# Altium footprint library PCB1.PcbLib: 19 footprints (part 1 of 2)
Each footprint in its own frame and in the unit in brackets; x right, y up, seen from the top. Pads: shape width x height; smd on the part's side, far side on the other; paste and mask are expansions set on the pad; w line width, h text height; cw(c..) or ccw(c..) is an arc to the next point about the centre after c.
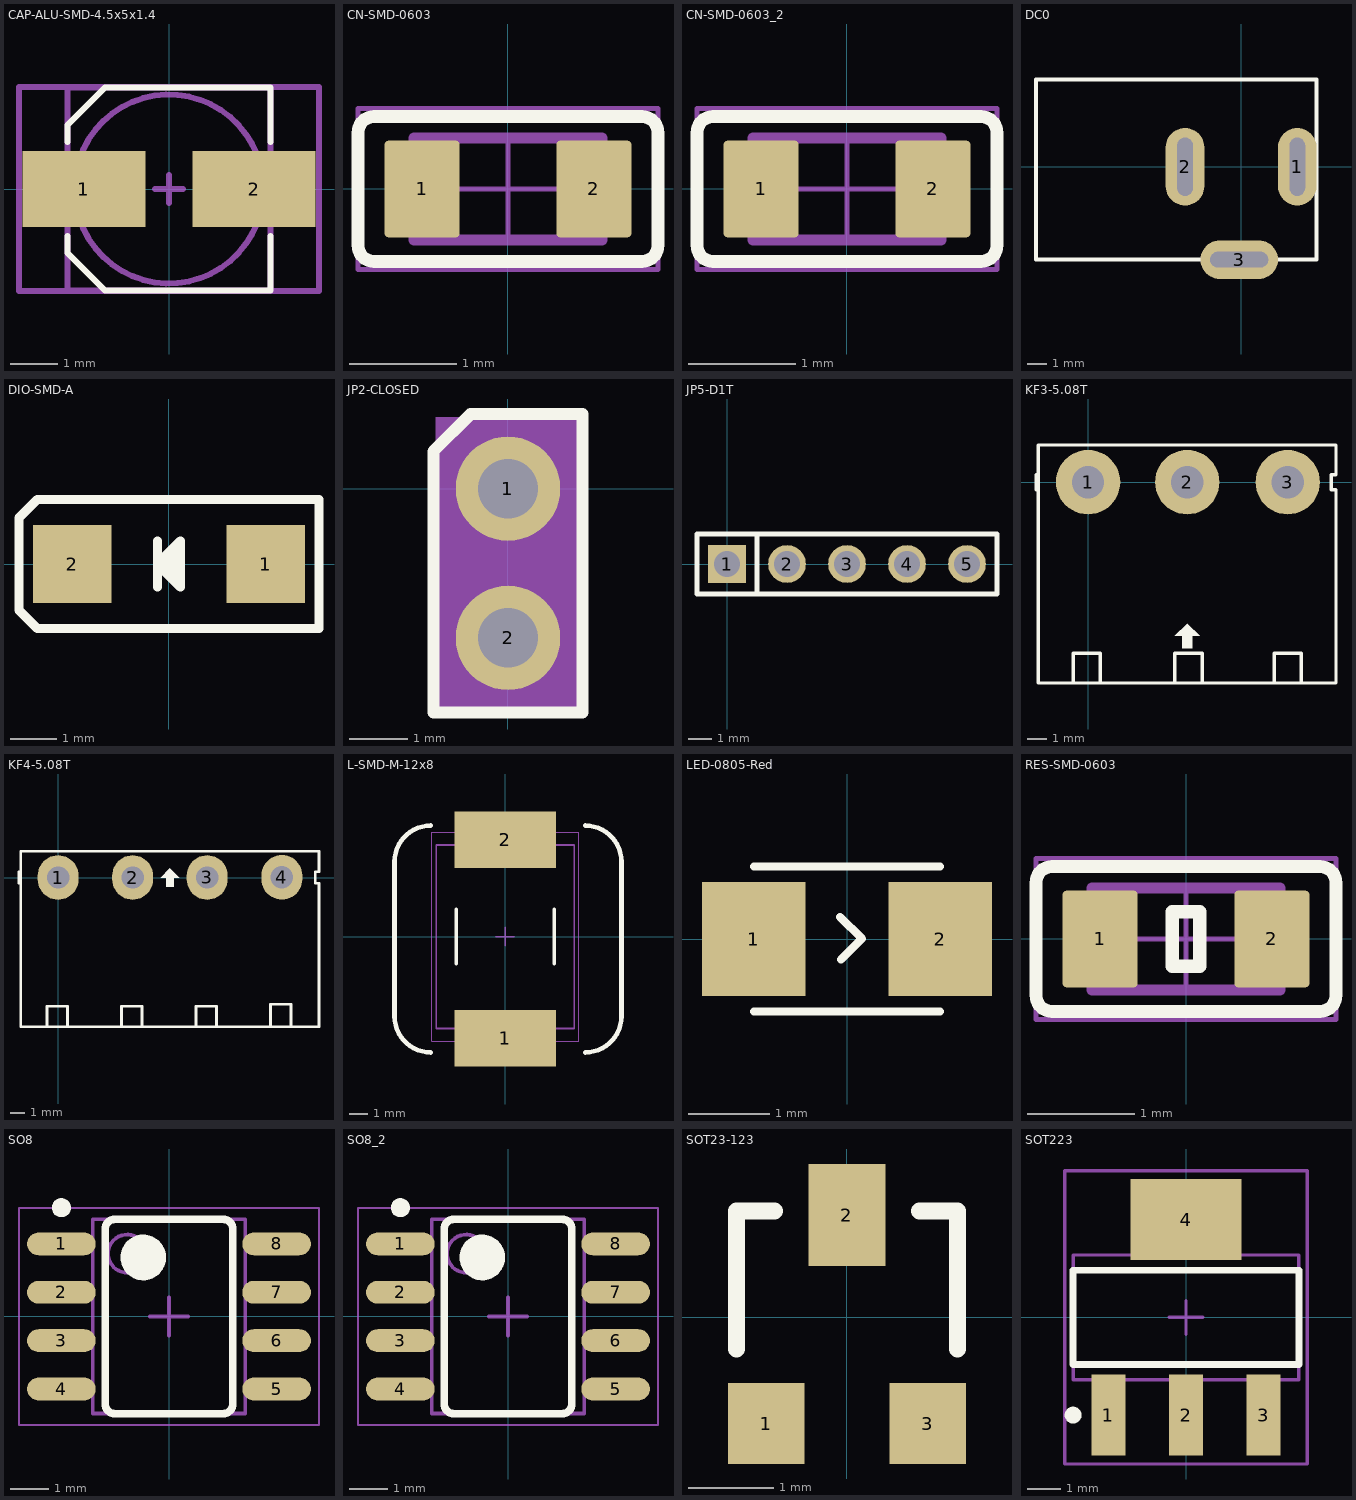
[diagram p0: the footprints below, top view; thin cyan lines are the x and y axes]

## CAP-ALU-SMD-4.5x5x1.4 [mm]
height 5.5
pads (2):
  rect 2.6x1.6 smd: 1(-1.8,0) 2(1.8,0)
Top Overlay:
  lines w0.127: -2.15,-1 -2.15,-1.35 -1.35,-2.15 2.15,-2.15 2.15,-1 ; -2.15,1 -2.15,1.35 -1.35,2.15 2.15,2.15 2.15,1
Mechanical 13:
  circle w0.127: c0,0 r2
  lines w0.127: -2.15,-2.15 2.15,-2.15 2.15,2.15 -2.15,2.15 -2.15,-2.15
Mechanical 15:
  lines w0.127: -0.3,0 0.3,0 ; 0,-0.3 0,0.3 ; -3.175,-2.159 3.175,-2.159 3.175,2.159 -3.175,2.159 -3.175,-2.159
3D body "4x5.5x1.stp": height 5.45, standoff -0.05, extent -2.5,-2.15 2.5,2.15

## CN-SMD-0603 [mm]
pads (2):
  rrect10% 0.7x0.9 smd: 1(-0.8,0) 2(0.8,0)
Top Overlay:
  lines w0.12: -1.397,-0.525 ccw(c-1.247,-0.525) -1.247,-0.675 1.247,-0.675 ccw(c1.247,-0.525) 1.397,-0.525 1.397,0.525 ccw(c1.247,0.525) 1.247,0.675 -1.247,0.675 ccw(c-1.247,0.525) -1.397,0.525 -1.397,-0.525
Mechanical 13:
  lines w0.1: -0.875,-0.475 -0.875,0.475 0.875,0.475 0.875,-0.475 -0.875,-0.475
Mechanical 15:
  lines w0.05: -0.475,0 0.475,0 ; 0,-0.475 0,0.475 ; -1.397,-0.75 -1.397,0.75 1.397,0.75 1.397,-0.75 -1.397,-0.75
3D body "User Library-0603 SMD Capacitor.step": height 0.3, standoff 0, extent -0.8,-0.4 0.8,0.4

## CN-SMD-0603_2 [mm]
pads (2):
  rrect10% 0.7x0.9 smd: 1(-0.8,0) 2(0.8,0)
Top Overlay:
  lines w0.12: -1.397,-0.525 ccw(c-1.247,-0.525) -1.247,-0.675 1.247,-0.675 ccw(c1.247,-0.525) 1.397,-0.525 1.397,0.525 ccw(c1.247,0.525) 1.247,0.675 -1.247,0.675 ccw(c-1.247,0.525) -1.397,0.525 -1.397,-0.525
Mechanical 13:
  lines w0.1: -0.875,-0.475 -0.875,0.475 0.875,0.475 0.875,-0.475 -0.875,-0.475
Mechanical 15:
  lines w0.05: -0.475,0 0.475,0 ; 0,-0.475 0,0.475 ; -1.397,-0.75 -1.397,0.75 1.397,0.75 1.397,-0.75 -1.397,-0.75
3D body "User Library-0603 SMD Capacitor.step": height 0.3, standoff 0, extent -0.8,-0.4 0.8,0.4

## DC0 [mm] "Jac DC input"
height 5.08
pads (3):
  oval 2x4 hole 0.8 slot 3 at 90 deg: 1(2.9,0) 2(-2.9,0)
  oval 4x2 hole 0.8 slot 3 at 0 deg: 3(-0.1,-4.8)
Top Overlay:
  lines w0.2: -2.1,-4.8 -10.6,-4.8 -10.6,4.5 3.9,4.5 3.9,-4.8 1.9,-4.8
3D body "694106301002.stp": height 10.7, standoff -3.8, extent -10.6,-4.9 3.9,4.5

## DIO-SMD-A [mm]
pads (2):
  rect 1.7x1.7 smd: 1(2.1,0) 2(-2.1,0)
Top Overlay:
  region: 0.25,0.5 0.25,-0.5 -0.25,0
  lines w0.2: -0.25,-0.5 -0.25,0.5 ; -3.25,-1 -2.85,-1.4 3.25,-1.4 3.25,1.4 -2.85,1.4 -3.25,1 -3.25,-1 ; -0.25,0 0.25,-0.5 0.25,0.5 -0.25,0
Mechanical 1:
  lines w0.1: -0.2,0 0.2,0 ; 0,-0.2 0,0.2
3D body "User Library-DO-214Aa SMA.step": height 2.4, standoff 0, extent -2.6,-1.3 2.6,1.3

## JP2-CLOSED [mil]
pads (2):
  round 70 hole 40: 1(0,0) 2(0,-100)
Top Overlay:
  lines w8: -50,-150 50,-150 50,50 -25,50 -50,25 -50,-150
Mechanical 2:
  rectangle: -48.01,-151 49.49,48
Mechanical 3:
  rectangle: -48.51,-148 48.49,48
3D body: height 300, standoff -120, extent -15,-115.25 15,-85.25
3D body: height 300, standoff -120, extent -15,-15.25 15,14.75
3D body: height 100, standoff 0, extent -50,-150.43 50,50
3D body: height 220, standoff 100, extent -48,-152 48,48
3D body: height 250, standoff 220, extent -41,-144 40,39.5
3D body: height 280, standoff 250, extent -48,-152 48,48

## JP5-D1T [mm] "5 pins, 1 row, straight, gold plating"
height 8.54
pads (5):
  rect 1.6x1.6 hole 1.1: 1(0,0)
  round 1.6 hole 1.1: 2(2.54,0) 3(5.08,0) 4(7.62,0) 5(10.16,0)
Top Overlay:
  lines w0.2: 1.27,-1.27 1.27,1.27 ; -1.27,-1.27 11.43,-1.27 11.43,1.27 -1.27,1.27 -1.27,-1.27
3D body "61300511121.stp": height 8.54, standoff -3, extent -1.27,-1.27 11.43,1.27

## KF3-5.08T [mil] "Header 3, 3 pin, hight 300mil, Pin to Pin 200, Colour Green"
height 300
pads (3):
  round 130 hole 65: 1(0,0) 2(200,0) 3(402.62,0)
Top Overlay:
  region: 200,-285 175,-310 190,-310 190,-335 210,-335 210,-310 225,-310
  lines w7: -105,-15 -105,15 ; -30,-400 -30,-345 25,-345 25,-400 ; 175,-400 175,-345 230,-345 230,-400 ; 375,-400 375,-345 430,-345 430,-400 ; -100,-405 500,-405 500,-15 490,-15 490,15 500,15 500,75 -100,75 -100,-405
3D body "User Library-BigHeader 5EHDR_1P.step": height 124.02, standoff -366.97, extent -95,-404 101.85,68.44
3D body "User Library-BigHeader 5EHDR_1P.step": height 124.02, standoff -366.97, extent 102,-404 298.85,68.44
3D body "User Library-BigHeader 5EHDR_1P.step": height 124.02, standoff -366.97, extent 299,-404.22 495.85,68.22

## KF4-5.08T [mil] "Header 4, 4 pin, hight 300mil, Pin to Pin 200, Colour Green"
height 300
pads (4):
  oval 110x120 hole 60: 1(0,0) 2(200,0) 3(400.06,0.06) 4(600.39,0.39)
Top Overlay:
  region: 300,25 275,0 290,0 290,-25 310,-25 310,0 325,0
  lines w7: -105,-15 -105,15 ; -30,-400 -30,-345 25,-345 25,-400 ; 170,-400 170,-345 225,-345 225,-400 ; 370,-400 370,-345 425,-345 425,-400 ; 570,-395 570,-340 625,-340 625,-395 ; -100,-400 -100,70 700,70 700,15 690,15 690,-15 700,-15 700,-400 -100,-400
3D body "User Library-BigHeader 5EHDR_1P.step": height 334.11, standoff -156.88, extent -86.85,-406.22 110,66.22
3D body "User Library-BigHeader 5EHDR_1P.step": height 334.11, standoff -156.88, extent 300,-406.22 496.85,66.22
3D body "User Library-BigHeader 5EHDR_1P.step": height 334.11, standoff -156.88, extent 493.15,-406.22 690,66.22
3D body "User Library-BigHeader 5EHDR_1P.step": height 334.11, standoff -156.88, extent 110,-406.22 306.85,66.22

## L-SMD-M-12x8 [mm]
height 8
pads (2):
  rect 5.6x3.1 smd: 1(0,-5.588) 2(0,5.334)
Top Overlay:
  lines w0.2: -2.7,-1.5 -2.7,1.5 ; 2.7,-1.5 2.7,1.5
  lines w0.254: -4.096,-6.377 cw(c-4.096,-4.377) -6.096,-4.377 -6.096,4.123 cw(c-4.096,4.123) -4.096,6.123 ; 4.404,-6.377 ccw(c4.404,-4.377) 6.404,-4.377 6.404,4.123 ccw(c4.404,4.123) 4.404,6.123
Mechanical 13:
  lines w0.1: -3.8,-5.05 -3.8,5.05 3.8,5.05 3.8,-5.05 -3.8,-5.05
Mechanical 15:
  lines w0.05: -4.05,-5.75 -4.05,5.75 4.05,5.75 4.05,-5.75 -4.05,-5.75
  lines w0.1: -0.5,0 0.5,0 ; 0,-0.5 0,0.5
3D body "100uH_3A.STEP": height 6.9, standoff 0.2, extent -6.096,-6.377 6.404,6.123

## LED-0805-Red [mil]
pads (2):
  rect 50x55 smd: 1(-45,0) 2(45,0)
Top Overlay:
  lines w3.94: -3.34,10.66 7.16,0.16 ; -2.91,-9.91 6.91,-0.09
  lines w4: -45,-35 45,-35 ; -45,35 45,35
3D body "User Library-led_0805-red.step": height 43.31, standoff 0, extent -39.76,-24.6 39.77,24.61

## RES-SMD-0603 [mm]
pads (2):
  rrect10% 0.7x0.9 smd: 1(-0.8,0) 2(0.8,0)
Top Overlay:
  lines w0.12: -1.397,-0.525 ccw(c-1.247,-0.525) -1.247,-0.675 1.247,-0.675 ccw(c1.247,-0.525) 1.397,-0.525 1.397,0.525 ccw(c1.247,0.525) 1.247,0.675 -1.247,0.675 ccw(c-1.247,0.525) -1.397,0.525 -1.397,-0.525
  lines w0.127: -0.127,-0.254 0.127,-0.254 0.127,0.254 -0.127,0.254 -0.127,-0.254
Mechanical 13:
  lines w0.1: -0.875,-0.475 -0.875,0.475 0.875,0.475 0.875,-0.475 -0.875,-0.475
Mechanical 15:
  lines w0.05: -0.475,0 0.475,0 ; 0,-0.475 0,0.475 ; -1.397,-0.75 -1.397,0.75 1.397,0.75 1.397,-0.75 -1.397,-0.75
3D body "User Library-SMD RESISTOR-1 (3).step": height 0.43, standoff -0.03, extent -0.8,-0.4 0.8,0.4

## SO8 [mm] "SOIC, 8-Leads, Body 4.9x3.9mm, Pitch 1.27mm, IPC High Density"
pads (8):
  oval 1.8x0.6 smd: 1(-2.825,1.905) 2(-2.825,0.635) 3(-2.825,-0.635) 4(-2.825,-1.905) 5(2.825,-1.905) 6(2.825,-0.635) 7(2.825,0.635) 8(2.825,1.905)
Top Overlay:
  circle w0.25: c-2.825,2.855 r0.125
  circle w0.6: c-0.675,1.55 r0.3
  lines w0.2: -1.675,-2.296 ccw(c-1.421,-2.296) -1.421,-2.55 1.421,-2.55 ccw(c1.421,-2.296) 1.675,-2.296 1.675,2.296 ccw(c1.421,2.296) 1.421,2.55 -1.421,2.55 ccw(c-1.421,2.296) -1.675,2.296 -1.675,-2.296
Mechanical 13:
  circle w0.1: c-1.1,1.65 r0.5
  lines w0.1: -2,-2.55 -2,2.55 2,2.55 2,-2.55 -2,-2.55
Mechanical 15:
  lines w0.05: -3.937,-2.85 -3.937,2.85 3.937,2.85 3.937,-2.85 -3.937,-2.85
  lines w0.1: -0.5,0 0.5,0 ; 0,-0.5 0,0.5
3D body "CircuitWorks-SO-8 (PIC12FXXX).step": height 1.6, standoff 0, extent -2.995,-2.45 2.995,2.45

## SO8_2 [mm]
pads (8):
  oval 1.8x0.6 smd: 1(-2.825,1.905) 2(-2.825,0.635) 3(-2.825,-0.635) 4(-2.825,-1.905) 5(2.825,-1.905) 6(2.825,-0.635) 7(2.825,0.635) 8(2.825,1.905)
Top Overlay:
  circle w0.25: c-2.825,2.855 r0.125
  circle w0.6: c-0.675,1.55 r0.3
  lines w0.2: -1.675,-2.296 ccw(c-1.421,-2.296) -1.421,-2.55 1.421,-2.55 ccw(c1.421,-2.296) 1.675,-2.296 1.675,2.296 ccw(c1.421,2.296) 1.421,2.55 -1.421,2.55 ccw(c-1.421,2.296) -1.675,2.296 -1.675,-2.296
Mechanical 13:
  circle w0.1: c-1.1,1.65 r0.5
  lines w0.1: -2,-2.55 -2,2.55 2,2.55 2,-2.55 -2,-2.55
Mechanical 15:
  lines w0.05: -3.937,-2.85 -3.937,2.85 3.937,2.85 3.937,-2.85 -3.937,-2.85
  lines w0.1: -0.5,0 0.5,0 ; 0,-0.5 0,0.5
3D body "CircuitWorks-SO-8 (PIC12FXXX).step": height 1.6, standoff 0, extent -2.995,-2.45 2.995,2.45

## SOT23-123 [mm] "SOT23, 1=bottom-left, 2=top, 3=bottom-right"
height 1.1
pads (3):
  rect 0.9x0.95 smd: 1(-0.95,-1.25)
  rect 0.9x1.2 smd: 2(0,1.2)
  rect 0.9x0.95 smd mask+0: 3(0.95,-1.25)
Top Overlay:
  lines w0.2: -1.3,-0.375 -1.3,1.25 -0.85,1.25 ; 0.85,1.25 1.3,1.25 1.3,-0.375
3D body "SW3DPS-SOT-23-DEFAULT.STEP": height 1.15, standoff 0.05, extent -1.524,-1.23 1.476,1.27

## SOT223 [mm]
pads (4):
  rect 1x2.4 smd: 1(-2.3,-2.9) 2(0,-2.9) 3(2.3,-2.9)
  rect 3.3x2.4 smd: 4(0,2.9)
Top Overlay:
  circle w0.25: c-3.35,-2.9 r0.125
  lines w0.2: -3.35,-1.4 3.35,-1.4 3.35,1.4 -3.35,1.4 -3.35,-1.4
Mechanical 13:
  lines w0.1: -3.35,-1.85 3.35,-1.85 3.35,1.85 -3.35,1.85 -3.35,-1.85
Mechanical 15:
  lines w0.1: -0.5,0 0.5,0 ; 0,-0.5 0,0.5 ; -3.6,-4.35 3.6,-4.35 3.6,4.35 -3.6,4.35 -3.6,-4.35
3D body "SW3DPS-SOT-223-DEFAULT.step": height 1.68, standoff 0, extent -3.25,-3.556 3.25,3.404